# Altium footprint library przycisk.PcbLib: 1 footprints
Each footprint in its own frame and in the unit in brackets; x right, y up, seen from the top. Pads: shape width x height; smd on the part's side, far side on the other; paste and mask are expansions set on the pad; w line width, h text height; cw(c..) or ccw(c..) is an arc to the next point about the centre after c.
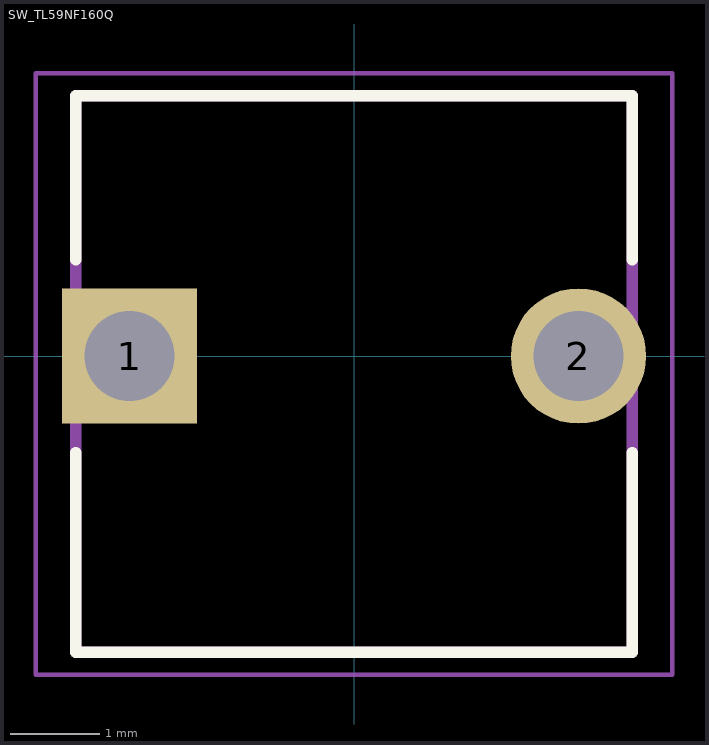
[diagram p0: the footprint, top view; thin cyan lines are the x and y axes]

## SW_TL59NF160Q [mm]
height 4.3
pads (2):
  rect 1.508x1.508 / inner round 1.508 / far side rect 1.508x1.508 hole 1: 1(-2.5,0)
  round 1.508 hole 1: 2(2.5,0)
Top Overlay:
  lines w0.127: -3.1,-1.074 -3.1,-3.3 3.1,-3.3 3.1,-1.074 ; -3.1,1.074 -3.1,2.9 3.1,2.9 3.1,1.074
Mechanical 13:
  lines w0.127: -3.1,-3.3 3.1,-3.3 3.1,2.9 -3.1,2.9 -3.1,-3.3
Mechanical 15:
  lines w0.05: -3.544,-3.55 -3.544,3.15 3.544,3.15 3.544,-3.55 -3.544,-3.55
3D body "step_temp.STEP": height 4.3, standoff -13.65, extent -3.1,-3.3 3.1,2.9